# EAGLE library part DIP_SWITCH_8PIN (library Switches)
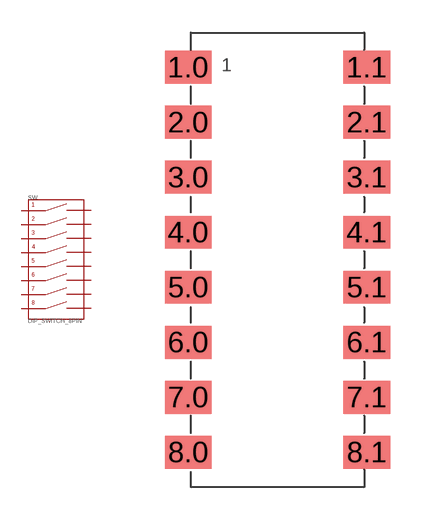
[diagram p0: symbol with the pads of DIP_SWITCH_8_2.54MMPITCH_SMD; footprint DIP_SWITCH_8_2.54MMPITCH_SMD]

Designator prefix SW

## DIP_SWITCH_8PIN_2.53MMPITCH_SMD  [DIP_SWITCH_8_2.54MMPITCH_SMD]
1.0  1.0  pas
1.1  1.1  pas
2.0  2.0  pas
2.1  2.1  pas
3.0  3.0  pas
3.1  3.1  pas
4.0  4.0  pas
4.1  4.1  pas
5.0  5.0  pas
5.1  5.1  pas
6.0  6.0  pas
6.1  6.1  pas
7.0  7.0  pas
7.1  7.1  pas
8.0  8.0  pas
8.1  8.1  pas

## Footprint DIP_SWITCH_8_2.54MMPITCH_SMD (pad centres in mm)
smd 2.16 x 1.52: 1.0 -4.13,8.89; 1.1 4.13,8.89; 2.0 -4.13,6.35; 2.1 4.13,6.35; 3.0 -4.13,3.81; 3.1 4.13,3.81; 4.0 -4.13,1.27; 4.1 4.13,1.27; 5.0 -4.13,-1.27; 5.1 4.13,-1.27; 6.0 -4.13,-3.81; 6.1 4.13,-3.81; 7.0 -4.13,-6.35; 7.1 4.13,-6.35; 8.0 -4.13,-8.89; 8.1 4.13,-8.89